# Altium integrated library ISSI SRAM Synchronous SRAM No-Wait(ZBT).IntLib: 1246 symbols (part 150 of 152)
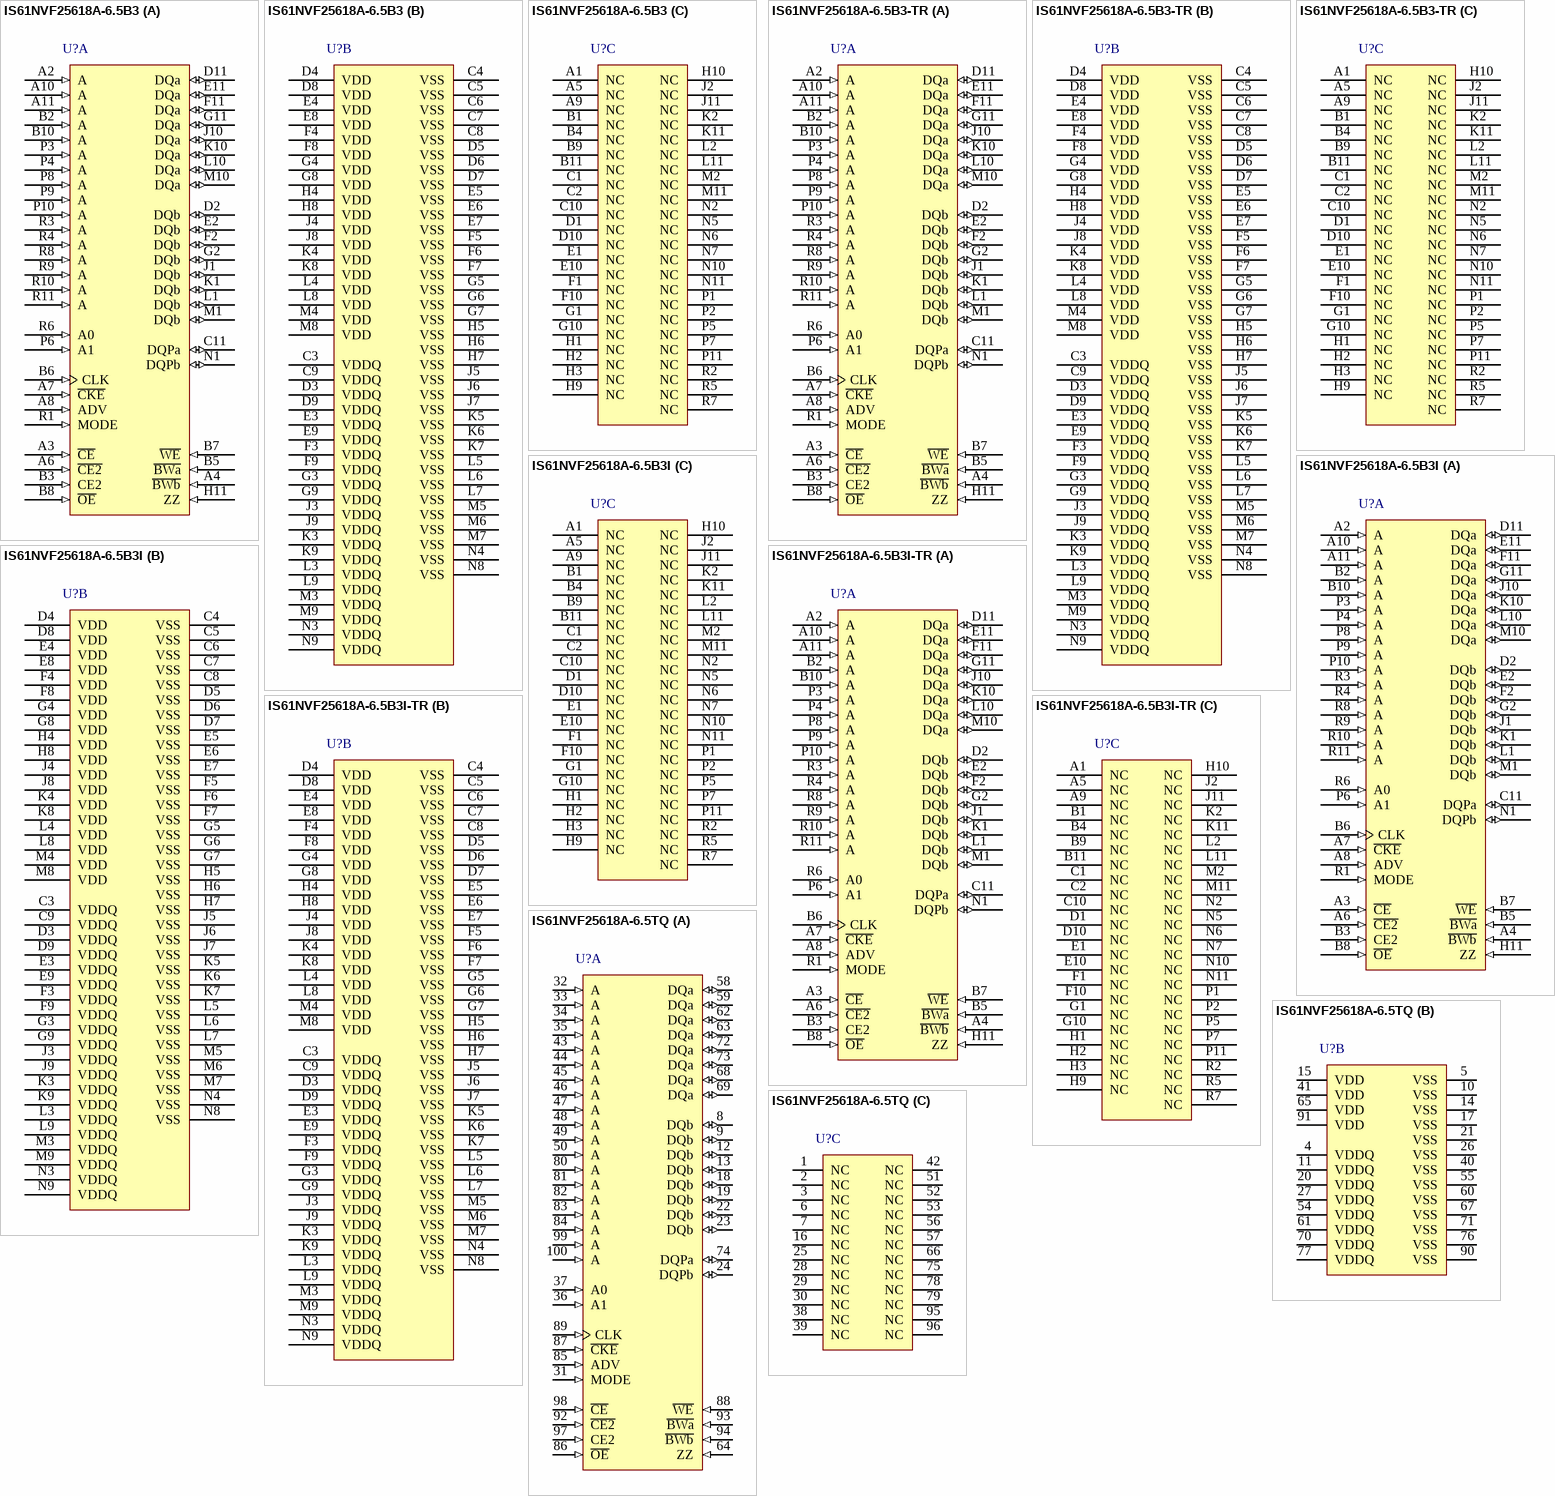
[diagram p414: symbols IS61NVF25618A-6.5B3 to IS61NVF25618A-6.5TQ]

## IS61NVF25618A-6.5TQ
designator U?
4 M Flow Through 'No Wait' State Bus SRAM, 256 K x 18, 0 to 70 degC, 100-Pin QFP (TQFP-100); Manufacturer: Integrated Silicon Solution Inc (ISSI); PartNumber: IS61NVF25618A-6.5TQ; Density: 4M; Packing: Tray / Tube; Vcc: 2.5 V; DatasheetVersion: Rev. D; PackageVersion: Rev. F, 09/2009; PackageReference: TQFP-100; PackageDescription: 100-Pin 20 x 14 mm LQFP, Pitch 0.65 mm; Organization: 256Kx18; VccQ: 2.5 V; Mounting Technology: Surface Mount; ComponentLink1Description: Manufacturer URL; ComponentLink1URL: http://www.issi.com/US/index.shtml; ComponentLink2Description: Datasheet; ComponentLink2URL: http://www.issi.com/WW/pdf/61NLF_NVF12836A_25618A.pdf; ComponentLink3Description: Package Specification; ComponentLink3URL: http://www.issi.com/WW/pdf/61VPS_LPS25636A_51218A.pdf
footprint ISSI-TQFP-100-20000X14000DE_N (QFP, 100-Leads, Body 20x14mm, Pitch 0.65mm, IPC Medium Density)
part A pins: 8 DQb (io) "Synchronous Data Input/Output", 9 DQb (io) "Synchronous Data Input/Output", 12 DQb (io) "Synchronous Data Input/Output", 13 DQb (io) "Synchronous Data Input/Output", 18 DQb (io) "Synchronous Data Input/Output", 19 DQb (io) "Synchronous Data Input/Output", 22 DQb (io) "Synchronous Data Input/Output", 23 DQb (io) "Synchronous Data Input/Output", 24 DQPb (io) "Parity Data I/O", 31 MODE (in) "Burst Sequence Selection", 32 A (in) "Synchronous Address Input", 33 A (in) "Synchronous Address Input", 34 A (in) "Synchronous Address Input", 35 A (in) "Synchronous Address Input", 36 A1 (in) "Synchronous Address Input. These pins must tied to the two LSBs of the address bus.", 37 A0 (in) "Synchronous Address Input. These pins must tied to the two LSBs of the address bus.", 43 A (in) "Synchronous Address Input", 44 A (in) "Synchronous Address Input", 45 A (in) "Synchronous Address Input", 46 A (in) "Synchronous Address Input", 47 A (in) "Synchronous Address Input", 48 A (in) "Synchronous Address Input", 49 A (in) "Synchronous Address Input", 50 A (in) "Synchronous Address Input", 58 DQa (io) "Synchronous Data Input/Output", 59 DQa (io) "Synchronous Data Input/Output", 62 DQa (io) "Synchronous Data Input/Output", 63 DQa (io) "Synchronous Data Input/Output", 64 ZZ (in) "Snooze Enable", 68 DQa (io) "Synchronous Data Input/Output", 69 DQa (io) "Synchronous Data Input/Output", 72 DQa (io) "Synchronous Data Input/Output", 73 DQa (io) "Synchronous Data Input/Output", 74 DQPa (io) "Parity Data I/O", 80 A (in) "Synchronous Address Input", 81 A (in) "Synchronous Address Input", 82 A (in) "Synchronous Address Input", 83 A (in) "Synchronous Address Input", 84 A (in) "Synchronous Address Input", 85 ADV (in) "Synchronous Burst Address Advance", 86 ~{OE} (in) "Output Enable", 87 ~{CKE} (in) "Clock Enable", 88 ~{WE} (in) "Write Enable", 89 CLK (in) "Synchronous Clock", 92 ~{CE2} (in) "Synchronous Chip Enable", 93 ~{BWa} (in) "Synchronous Byte Write Enable", 94 ~{BWb} (in) "Synchronous Byte Write Enable", 97 CE2 (in) "Synchronous Chip Enable", 98 ~{CE} (in) "Synchronous Chip Enable", 99 A (in) "Synchronous Address Input", 100 A (in) "Synchronous Address Input"
part B pins: 4 VDDQ (power) "Isolated Output Buffer Supply: +3.3V/2.5V", 5 VSS (power), 10 VSS (power), 11 VDDQ (power) "Isolated Output Buffer Supply: +3.3V/2.5V", 14 VSS (power), 15 VDD (power) "+3.3V/2.5V Power Supply", 17 VSS (power), 20 VDDQ (power) "Isolated Output Buffer Supply: +3.3V/2.5V", 21 VSS (power), 26 VSS (power), 27 VDDQ (power) "Isolated Output Buffer Supply: +3.3V/2.5V", 40 VSS (power), 41 VDD (power) "+3.3V/2.5V Power Supply", 54 VDDQ (power) "Isolated Output Buffer Supply: +3.3V/2.5V", 55 VSS (power), 60 VSS (power), 61 VDDQ (power) "Isolated Output Buffer Supply: +3.3V/2.5V", 65 VDD (power) "+3.3V/2.5V Power Supply", 67 VSS (power), 70 VDDQ (power) "Isolated Output Buffer Supply: +3.3V/2.5V", 71 VSS (power), 76 VSS (power), 77 VDDQ (power) "Isolated Output Buffer Supply: +3.3V/2.5V", 90 VSS (power), 91 VDD (power) "+3.3V/2.5V Power Supply"
part C pins: 1 NC "Not Connected", 2 NC "Not Connected", 3 NC "Not Connected", 6 NC "Not Connected", 7 NC "Not Connected", 16 NC "Not Connected", 25 NC "Not Connected", 28 NC "Not Connected", 29 NC "Not Connected", 30 NC "Not Connected", 38 NC "Not Connected", 39 NC "Not Connected", 42 NC "Not Connected", 51 NC "Not Connected", 52 NC "Not Connected", 53 NC "Not Connected", 56 NC "Not Connected", 57 NC "Not Connected", 66 NC "Not Connected", 75 NC "Not Connected", 78 NC "Not Connected", 79 NC "Not Connected", 95 NC "Not Connected", 96 NC "Not Connected"

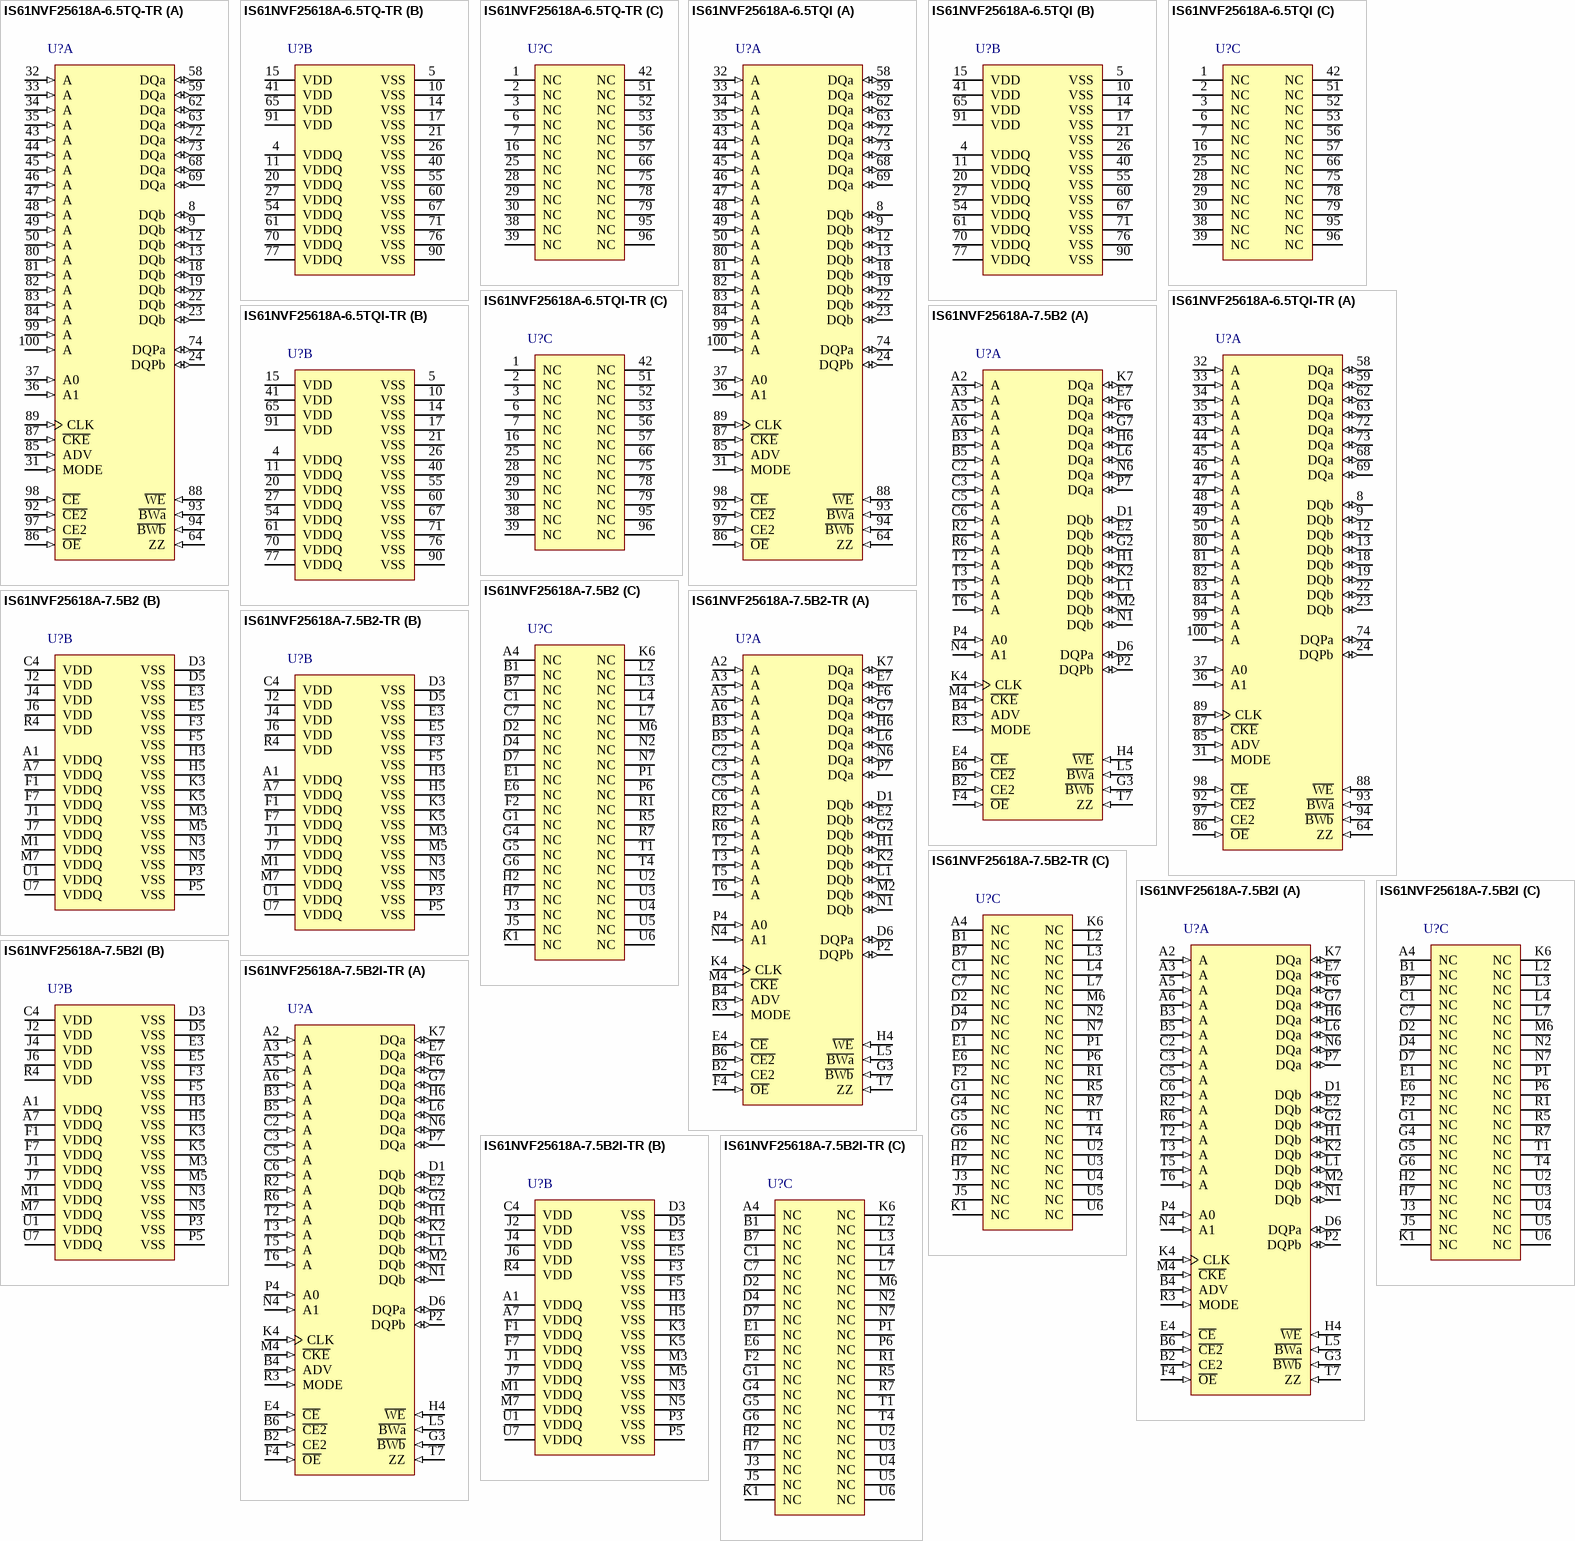
[diagram p148: symbols IS61NVF25618A-6.5TQ-TR to IS61NVF25618A-7.5B2I-TR]